# EAGLE library part MCP4725 (library HelaTronix - IC Special Functions)
12-Bit Digital-to-Analog DAC Converter with EEPROM Memory in SOT-23-6
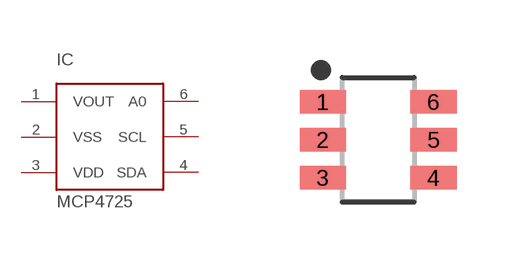
[diagram p4: symbol with the pads of SOT23-6-MCP4725; footprint SOT23-6-MCP4725]

Designator prefix IC

## MCP4725 (LCSC#: C144198; LCSC_LINK: https://lcsc.com/product-detail/Digital-To-Analog-Converters-DACs_Microchip-Tech-MCP4725A0T-E-CH_C144198.html; MANUFACTURER: Microchip Tech; MFR#: MCP4725A0T-E/CH)  [SOT23-6-MCP4725]
1  VOUT
2  VSS
3  VDD
4  SDA
5  SCL
6  A0

## Footprint SOT23-6-MCP4725 (pad centres in mm)
6-SOT23, 0.95 mm pitch, 3.10 mm span, 2.95 X 1.55 X 1.45 mm body 6-pin SOT23 package with 0.95 mm pitch, 3.10 mm span with body size 2.95 X 1.55 X 1.45 mm
smd 1.16 x 0.59: 1 -1.385,0.95; 2 -1.385,0; 3 -1.385,-0.95; 4 1.385,-0.95; 5 1.385,0; 6 1.385,0.95